# Altium footprint library XTAL.PcbLib: 34 footprints (part 2 of 3)
Each footprint in its own frame and in the unit in brackets; x right, y up, seen from the top. Pads: shape width x height; smd on the part's side, far side on the other; paste and mask are expansions set on the pad; w line width, h text height; cw(c..) or ccw(c..) is an arc to the next point about the centre after c.
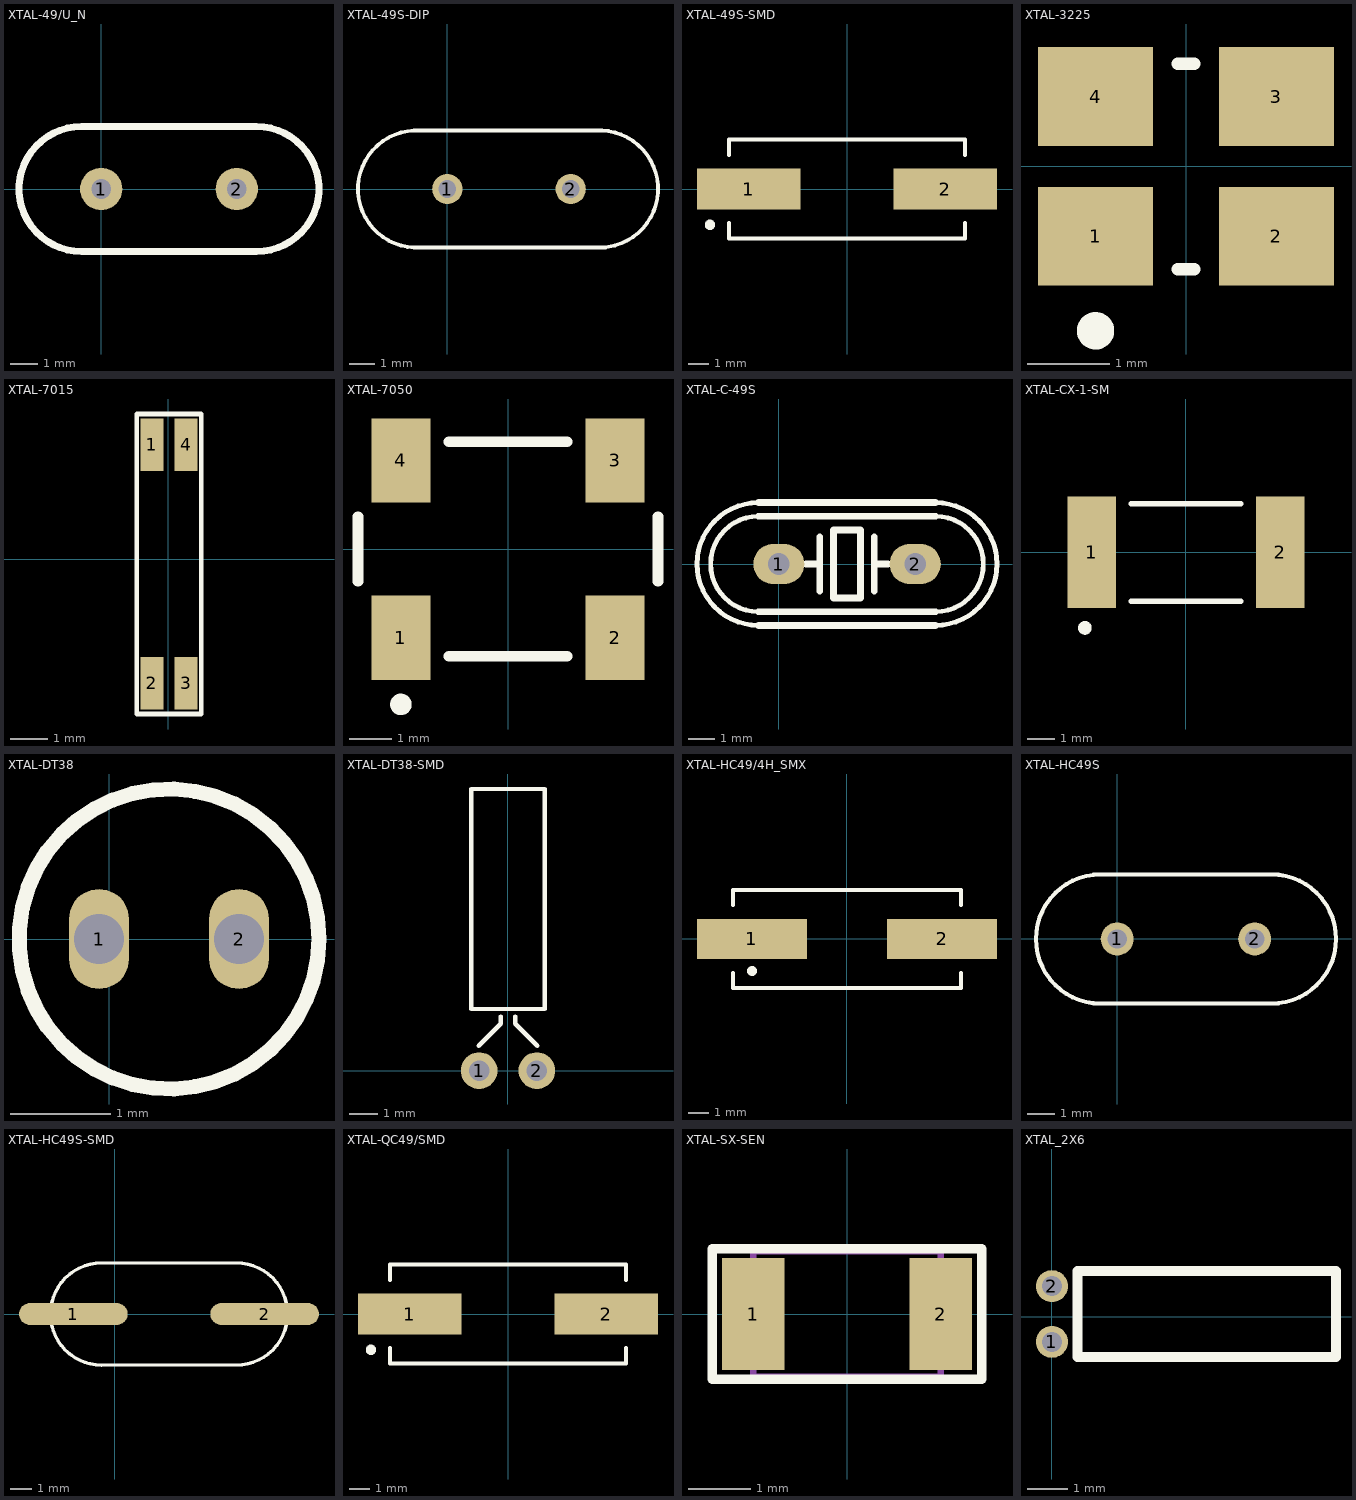
[diagram p1: the footprints below, top view; thin cyan lines are the x and y axes]

## XTAL-49/U_N [mil] "高型晶振（未加焊）"
pads (2):
  round 60 hole 28: 1(0,0) 2(192,0)
Top Overlay:
  lines w10: -28,-88.5 cw(c-28,0) -28,88.5 220,88.5 cw(c220,0) 220,-88.5 -28,-88.5
3D body "hc-49u_n.stp": height 511.81, standoff -118.11, extent -116.54,-88.39 308.66,88.78

## XTAL-49S-DIP [mm]
pads (2):
  round 1.2 hole 0.7: 1(0,0) 2(4.9,0)
Top Overlay:
  lines w0.15: -1.322,-2.323 cw(c-1.221,0) -1.317,2.323 ; -1.32,-2.325 -0.843,-2.325 6.28,-2.325 ; -1.315,2.325 -1.06,2.325 6.136,2.325 ; 6.136,2.325 cw(c6.04,0.002) 6.141,-2.321
3D body "hc-49s_n.stp": height 3.5, standoff -3, extent -3.077,-2.143 7.723,2.357

## XTAL-49S-SMD [mm]
pads (2):
  rect 5x2 smd: 1(-4.75,0) 2(4.75,0)
Top Overlay:
  circle w0.25: c-6.625,-1.73 r0.125
  lines w0.2: -5.7,-1.65 -5.7,-2.4 5.7,-2.4 5.7,-1.65 ; -5.7,1.65 -5.7,2.4 5.7,2.4 5.7,1.65
3D body "User Library-hc49_cystal.STEP": height 4, standoff 0, extent -6.7,-2.462 6.7,2.438

## XTAL-3225 [mm]
pads (4):
  rect 1.4x1.2 smd: 1(-1.1,-0.85) 2(1.1,-0.85) 3(1.1,0.85) 4(-1.1,0.85)
Top Overlay:
  circle w0.254: c-1.1,-2 r0.1
  lines w0.152: -0.1,-1.25 0.1,-1.25 ; -0.1,1.25 0.1,1.25
3D body "XTAL-3225.STEP": height 0.8, standoff 0, extent -1.6,-1.25 1.6,1.25

## XTAL-7015 [mil]
pads (4):
  rect 23.62x55 smd: 1(-17,119) 2(-17,-129.03) 3(18.43,-129.03) 4(18.43,119)
Top Overlay:
  lines w4.72: -32.75,-161 -32.75,151 34.18,151 34.18,-161 -32.75,-161
3D body "xtal6713.STEP": height 51.18, standoff 0, extent -25,-148.9 26.18,136.9

## XTAL-7050 [mm]
pads (4):
  rect 1.4x2 smd: 1(-2.54,-2.1) 2(2.54,-2.1) 3(2.54,2.1) 4(-2.54,2.1)
Top Overlay:
  circle w0.254: c-2.54,-3.683 r0.127
  lines w0.254: -3.556,-0.762 -3.556,0.762 ; -1.397,-2.54 1.397,-2.54 ; -1.397,2.54 1.397,2.54 ; 3.556,-0.762 3.556,0.762
3D body "XTAL-7050.STEP": height 1, standoff 0, extent -3.5,-2.5 3.5,2.5

## XTAL-C-49S [mm]
pads (2):
  oval 1.905x1.5 hole 0.813: 1(0,0) 2(5.08,0)
Top Overlay:
  lines w0.178: -0.762,-2.286 cw(c-0.762,0) -0.762,2.286 ; -0.762,-1.778 cw(c-0.762,0) -0.762,1.778 ; 5.842,-2.286 ccw(c5.842,0) 5.842,2.286 ; 5.842,-1.778 ccw(c5.842,0) 5.842,1.778
  lines w0.254: -0.762,-2.286 5.842,-2.286 ; -0.762,-1.778 5.842,-1.778 ; -0.762,1.778 5.842,1.778 ; -0.762,2.286 5.842,2.286 ; 1.016,0 1.524,0 ; 1.524,-1.016 1.524,1.016 ; 3.556,-1.016 3.556,1.016 ; 3.556,0 4.064,0 ; 2.032,-1.27 2.032,1.27 3.048,1.27 3.048,-1.27 2.032,-1.27
3D body "hc-49s_y.stp": height 3.5, standoff -3, extent -2.848,-2.255 7.952,2.245

## XTAL-CX-1-SM [mm]
pads (2):
  rect 1.78x4.06 smd: 1(-3.43,0) 2(3.43,0)
Top Overlay:
  circle w0.25: c-3.681,-2.747 r0.125
  lines w0.2: -2,-1.78 2,-1.78 ; -2,1.78 2,1.78

## XTAL-DT38 [mm]
pads (2):
  oval 0.6x1 hole 0.5: 1(-0.1,0) 2(1.3,0)
Top Overlay:
  circle w0.15: c0.6,0 r1.5
3D body "User Library-TC38.step": height 6.5, standoff -1.8, extent -0.55,-1 1.75,1

## XTAL-DT38-SMD [mm]
pads (2):
  round 1.27 hole 0.711: 1(-1,0) 2(1,0)
Top Overlay:
  lines w0.15: -1.016,0.862 -0.254,1.624 -0.254,1.878 ; 0.254,1.878 0.254,1.624 1.016,0.862 ; -1.27,2.132 -1.27,9.752 1.27,9.752 1.27,2.132 -1.27,2.132
3D body "User Library-TC38 SMD.step": height 2, standoff -0.25, extent -1.395,0.07 1.395,9.57

## XTAL-HC49/4H_SMX [mm]
pads (2):
  rect 5.5x2 smd: 1(-4.75,0) 2(4.75,0)
Top Overlay:
  circle w0.25: c-4.75,-1.6 r0.125
  lines w0.2: -5.7,-1.7 -5.7,-2.45 5.7,-2.45 5.7,-1.7 ; -5.7,1.7 -5.7,2.45 5.7,2.45 5.7,1.7

## XTAL-HC49S [mm]
pads (2):
  round 1.2 hole 0.7: 1(0,0) 2(5,0)
Top Overlay:
  lines w0.15: -0.606,-2.352 5.603,-2.35 ; -0.602,-2.352 cw(c-0.602,-0.002) -0.602,2.348 ; -0.6,2.349 5.602,2.35 ; 5.604,-2.35 ccw(c5.604,0) 5.604,2.35
3D body "User Library-HP49US.step": height 3.5, standoff -4, extent -3.175,-2.325 8.175,2.325

## XTAL-HC49S-SMD [mm]
pads (2):
  oval 5x1 smd: 1(-1.9,0) 2(6.9,0)
Top Overlay:
  lines w0.15: -0.606,-2.352 5.603,-2.35 ; -0.602,-2.352 cw(c-0.602,-0.002) -0.602,2.348 ; -0.6,2.349 5.602,2.35 ; 5.604,-2.35 ccw(c5.604,0) 5.604,2.35
3D body "User Library-SMU4.STEP": height 4.02, standoff 0.02, extent -3.749,-2.4 8.751,2.4

## XTAL-QC49/SMD [mm]
pads (2):
  rect 5x2 smd: 1(-4.75,0) 2(4.75,0)
Top Overlay:
  circle w0.25: c-6.625,-1.73 r0.125
  lines w0.2: -5.7,-1.65 -5.7,-2.4 5.7,-2.4 5.7,-1.65 ; -5.7,1.65 -5.7,2.4 5.7,2.4 5.7,1.65
3D body "User Library-hc49_cystal.STEP": height 4, standoff 0, extent -6.7,-2.462 6.7,2.439

## XTAL-SX-SEN [mm]
height 0.051
pads (2):
  rect 1x1.8 smd: 1(-1.5,0) 2(1.5,0)
Top Overlay:
  lines w0.152: -2.159,-1.041 2.159,-1.041 2.159,1.041 -2.159,1.041 -2.159,-1.041
Mechanical 13:
  lines w0.1: -1.5,-1 1.5,-1 1.5,1 -1.5,1 -1.5,-1
3D body "CSX-SEN.STEP": height 1.8, standoff 0, extent -1.5,-0.9 1.5,0.9

## XTAL_2X6 [mm]
pads (2):
  round 0.8 hole 0.5: 1(0,-0.635) 2(0,0.762)
Top Overlay:
  lines w0.254: 0.635,-1.016 0.635,1.143 7.112,1.143 7.112,-1.016 0.635,-1.016
3D body: height 2, standoff 0, extent 0.912,-0.94 6.912,1.052